# Altium footprint library FTDI.PcbLib: 1 footprints
Each footprint in its own frame and in the unit in brackets; x right, y up, seen from the top. Pads: shape width x height; smd on the part's side, far side on the other; paste and mask are expansions set on the pad; w line width, h text height; cw(c..) or ccw(c..) is an arc to the next point about the centre after c.
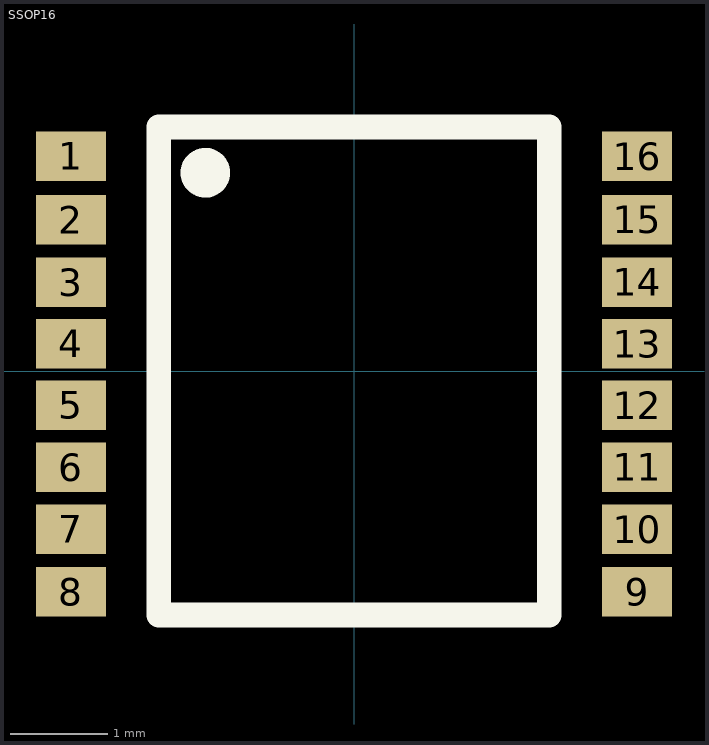
[diagram p0: the footprint, top view; thin cyan lines are the x and y axes]

## SSOP16 [mm]
pads (16):
  rect 0.72x0.508 smd: 1(-2.9,2.2) 2(-2.9,1.55) 3(-2.9,0.91) 4(-2.9,0.28) 5(-2.9,-0.35) 6(-2.9,-0.986) 7(-2.9,-1.62) 8(-2.9,-2.26) 9(2.9,-2.26) 10(2.9,-1.62) 11(2.9,-0.986) 12(2.9,-0.35) 13(2.9,0.28) 14(2.9,0.91) 15(2.9,1.55) 16(2.9,2.2)
Top Overlay:
  circle w0.254: c-1.524,2.032 r0.127
  lines w0.254: -2,-2.5 2,-2.5 2,2.5 -2,2.5 -2,-2.5
3D body: height 1.1, standoff 0, extent -2.997,-2.489 2.997,2.489